# Altium footprint library mosfet_STM32.PcbLib: 11 footprints
Each footprint in its own frame and in the unit in brackets; x right, y up, seen from the top. Pads: shape width x height; smd on the part's side, far side on the other; paste and mask are expansions set on the pad; w line width, h text height; cw(c..) or ccw(c..) is an arc to the next point about the centre after c.
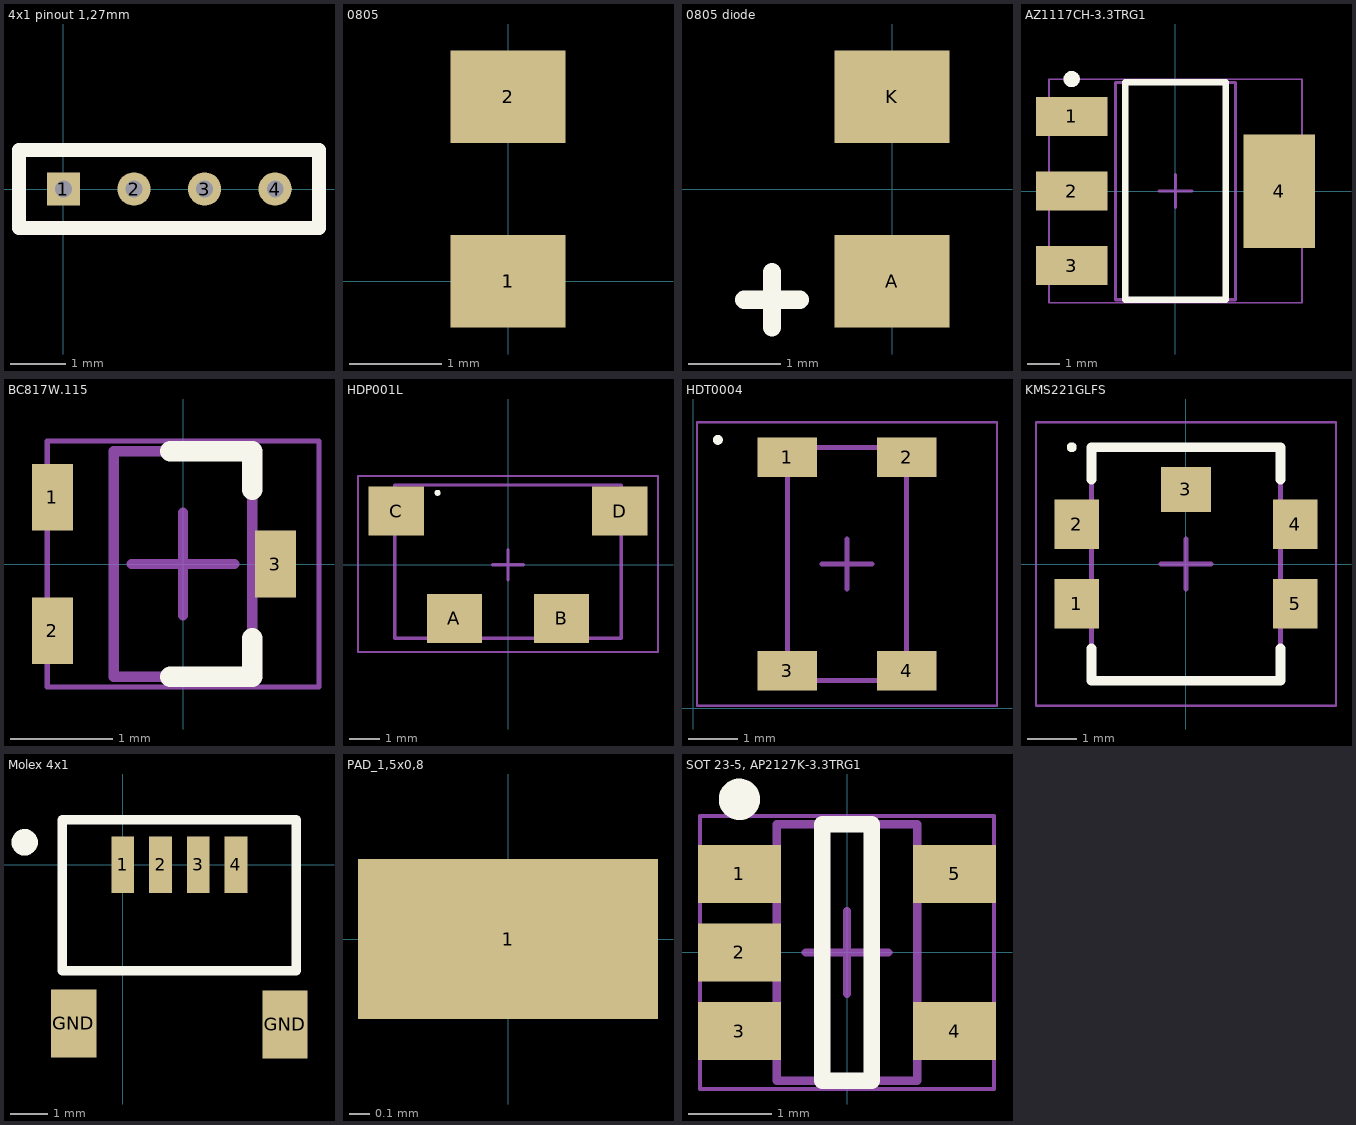
[diagram p0: the footprints below, top view; thin cyan lines are the x and y axes]

## 4x1 pinout 1,27mm [mm]
pads (4):
  rect 0.6x0.6 hole 0.3: 1(0,0)
  round 0.6 hole 0.3: 2(1.27,0) 3(2.54,0) 4(3.81,0)
Top Overlay:
  lines w0.254: -0.8,-0.7 4.6,-0.7 4.6,0.7 -0.8,0.7 -0.8,-0.7

## 0805 [mm]
pads (3):
  rect 1.25x1 smd: 1(0,0) 1(0,0) 2(0,2)
3D body "CircuitWorks-CAPACITOR 0805.step": height 0.77, standoff 0.01, extent -0.655,0 0.655,2

## 0805 diode [mm]
pads (2):
  rect 1.25x1 smd: A(0,-1) K(0,1)
Top Overlay:
  lines w0.2: -1.6,-1.2 -1,-1.2 ; -1.3,-1.5 -1.3,-0.9
3D body "CircuitWorks-CAPACITOR 0805.step": height 0.77, standoff 0.01, extent -0.655,-1 0.655,1

## AZ1117CH-3.3TRG1 [mm] "3.3V stabilisator, SOT223"
height 1.8
pads (4):
  rect 2.2x1.2 smd: 1(-3.2,2.3) 2(-3.2,0) 3(-3.2,-2.3)
  rect 2.2x3.5 smd: 4(3.2,0)
Top Overlay:
  circle w0.25: c-3.2,3.45 r0.125
  lines w0.2: -1.55,-3.35 -1.55,3.35 1.55,3.35 1.55,-3.35 -1.55,-3.35
Mechanical 13:
  lines w0.1: -1.85,-3.35 -1.85,3.35 1.85,3.35 1.85,-3.35 -1.85,-3.35
Mechanical 15:
  lines w0.05: -3.9,-3.45 -3.9,3.45 3.9,3.45 3.9,-3.45 -3.9,-3.45
  lines w0.1: -0.5,0 0.5,0 ; 0,-0.5 0,0.5
3D body "User Library-SOT233.step": height 1.61, standoff -0.09, extent -3.55,-3.35 3.75,3.35

## BC817W.115 [mm] "SOT323, 3-Leads, Body 2,00x2,10mm, Pitch 1,30mm, IPC High Density"
height 1.1
pads (3):
  rect 0.4x0.65 smd: 1(-1.275,0.65) 2(-1.275,-0.65) 3(0.9,0)
Top Overlay:
  lines w0.2: -0.125,-1.1 0.675,-1.1 0.675,-0.725 ; -0.125,1.1 0.675,1.1 0.675,0.725
Mechanical 13:
  lines w0.1: -0.675,-1.1 -0.675,1.1 0.675,1.1 0.675,-1.1 -0.675,-1.1
Mechanical 15:
  lines w0.05: -1.325,-1.2 -1.325,1.2 1.325,1.2 1.325,-1.2 -1.325,-1.2
  lines w0.1: -0.5,0 0.5,0 ; 0,-0.5 0,0.5
3D body "User Library-SOT323 (SC70-3)-1.STEP": height 1.11, standoff 0.01, extent -1.322,-1.1 0.923,1.1

## HDP001L [mm]
height 1.9
pads (4):
  rect 1.8x1.6 smd: A(-1.75,-1.75) B(1.75,-1.75) C(-3.65,1.75) D(3.65,1.75)
Top Overlay:
  circle w0.1: c-2.3,2.35 r0.05
Mechanical 13:
  lines w0.1: -3.7,-2.4 -3.7,2.6 3.7,2.6 3.7,-2.4 -3.7,-2.4
Mechanical 15:
  lines w0.05: -4.9,-2.85 -4.9,2.9 -2.45,2.9 2.45,2.9 4.9,2.9 4.9,-2.85 -4.9,-2.85
  lines w0.1: -0.5,0 0.5,0 ; 0,-0.5 0,0.5
3D body "HDP001L.stp": height 1.91, standoff -0.49, extent -3.725,-2.445 3.725,6.2

## HDT0004 [mm]
height 3.8
pads (4):
  rect 1.2x0.8 smd: 1(1.9,5.05) 2(4.3,5.05) 3(1.9,0.75) 4(4.3,0.75)
Top Overlay:
  circle w0.1: c0.5,5.4 r0.05
Mechanical 13:
  lines w0.1: 1.9,0.55 1.9,5.25 4.3,5.25 4.3,0.55 1.9,0.55
Mechanical 15:
  lines w0.05: 0.08,0.05 0.08,5.75 6.12,5.75 6.12,0.05 0.08,0.05
  lines w0.1: 2.6,2.9 3.6,2.9 ; 3.1,2.4 3.1,3.4
3D body "HDT0004.stp": height 3.78, standoff 0.01, extent 0.65,0.55 5.55,5.25

## KMS221GLFS [mm]
height 1.42
pads (5):
  rect 0.9x1 smd: 1(-2.2,-0.8) 2(-2.2,0.8) 4(2.2,0.8) 5(2.2,-0.8)
  rect 1x0.9 smd: 3(0,1.5)
Top Overlay:
  circle w0.1: c-2.3,2.35 r0.05
  lines w0.2: -1.9,-1.7 -1.9,-2.35 1.9,-2.35 1.9,-1.7 ; -1.9,1.7 -1.9,2.35 1.9,2.35 1.9,1.7
Mechanical 13:
  lines w0.1: -1.9,-2.35 -1.9,2.35 1.9,2.35 1.9,-2.35 -1.9,-2.35
Mechanical 15:
  lines w0.05: -3.02,-2.85 -3.02,2.85 3.02,2.85 3.02,-2.85 -3.02,-2.85
  lines w0.1: -0.5,0 0.5,0 ; 0,-0.5 0,0.5
3D body "KMS221GLFS.stp": height 1.43, standoff -0.01, extent -2.3,-2.15 2.3,1.4

## Molex 4x1 [mm] "raster 1mm"
pads (6):
  rect 0.6x1.5 smd: 1(0,0) 2(1,0) 3(2,0) 4(3,0)
  rect 1.2x1.8 smd: GND(-1.3,-4.2) GND(4.3,-4.225)
Top Overlay:
  circle w0.4: c-2.6,0.6 r0.15
  lines w0.254: -1.6,-2.8 4.6,-2.8 4.6,1.2 -1.6,1.2 -1.6,-2.8
3D body "5015680407.stp": height 3.21, standoff 0.01, extent -1.5,-5.625 4.5,0.275

## PAD_1,5x0,8 [mm]
pads (1):
  rect 1.5x0.8 smd: 1(0,0)

## SOT 23-5, AP2127K-3.3TRG1 [mm] "SOT23, 5-Leads, Body 2,96x2,83mm, Pitch 0,95mm, IPC High Density"
height 1.45
pads (5):
  rect 1x0.7 smd: 1(-1.3,0.95) 2(-1.3,0) 3(-1.3,-0.95) 4(1.3,-0.95) 5(1.3,0.95)
Top Overlay:
  circle w0.25: c-1.3,1.85 r0.125
  lines w0.2: -0.3,-1.55 0.3,-1.55 0.3,1.55 -0.3,1.55 -0.3,-1.55
Mechanical 13:
  lines w0.1: -0.85,-1.55 -0.85,1.55 0.85,1.55 0.85,-1.55 -0.85,-1.55
Mechanical 15:
  lines w0.05: -1.775,-1.65 -1.775,1.65 1.775,1.65 1.775,-1.65 -1.775,-1.65
  lines w0.1: -0.5,0 0.5,0 ; 0,-0.5 0,0.5
3D body "CircuitWorks-SOT-23-5.step": height 1.11, standoff 0.01, extent -1.25,-1.5 1.25,1.5